# Altium schematic symbol library Connectors.SchLib: 1 symbol
Pins are listed as number, name and electrical type; pins without a type are passive.

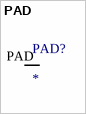
[diagram p0: symbol PAD]

## PAD
designator PAD?
A simple semi circle pad
footprint Semi Circle PAD
pins: PAD